# Altium footprint library unspecified.PcbLib: 3 footprints
Each footprint in its own frame and in the unit in brackets; x right, y up, seen from the top. Pads: shape width x height; smd on the part's side, far side on the other; paste and mask are expansions set on the pad; w line width, h text height; cw(c..) or ccw(c..) is an arc to the next point about the centre after c.
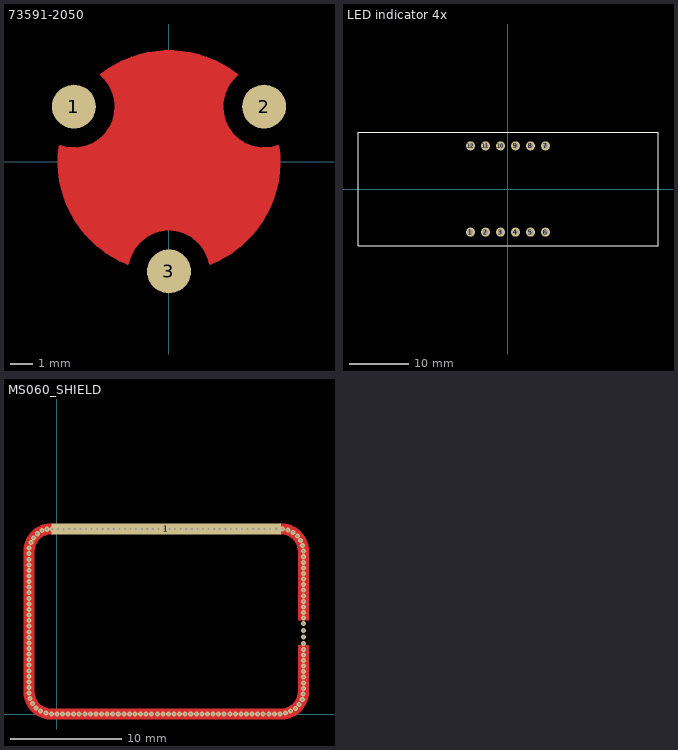
[diagram p0: the footprints below, top view; thin cyan lines are the x and y axes]

## 73591-2050 [mm]
pads (3):
  round 2 smd: 1(-4.33,2.5) 2(4.33,2.5) 3(0,-5)
Top Layer:
  region: 4.664,-1.535 3.648,0.225 0.568,-1.553 1.584,-3.313
  region: 0.346,-2.043 -0.67,-0.283 -3.75,-2.061 -2.734,-3.821
  region: -0.543,-0.646 -1.559,1.114 -4.639,-0.664 -3.623,-2.424
  rectangle: 1.397,-3.429 3.429,0.127
  rectangle: 0.635,-2.921 3.175,0.381
  rectangle: -2.032,-2.286 2.159,4.064
  region: 2.971,4.052 2.755,4.052 2.755,3.819 2.971,3.819
  region: 2.024,-4.599 2.132,-4.412 1.93,-4.295 1.822,-4.483
  region: -4.995,0.547 -4.887,0.36 -4.685,0.476 -4.793,0.664
  region: 4.793,0.664 4.685,0.476 4.887,0.36 4.995,0.547
  region: -1.822,-4.483 -1.93,-4.295 -2.132,-4.412 -2.024,-4.599
  rectangle: -2.971,3.819 -2.755,4.052
  lines w0.15: -1.888,-4.621 cw(c0,-5) 1.882,-4.592 ; -4.954,0.678 ccw(c0,0) -1.89,-4.629 cw(c0,-5) 1.89,-4.629 ccw(c0,0) 4.954,0.678 cw(c4.33,2.5) 3.064,3.951 ccw(c0,0) -3.064,3.951 cw(c-4.33,2.5) -4.954,0.678
  lines w1: -4.498,0.118 ccw(c0,0) -2.125,-3.967 ; -2.373,3.823 cw(c0,0) 2.352,3.837 ; 2.147,-3.955 ccw(c0,0) 4.498,0.144
  lines w1.1: -4.496,0.006 ccw(c-4.33,2.5) -2.204,3.815 ; -2.248,-3.907 cw(c0,-5) 2.247,-3.904 ; 2.262,3.904 ccw(c4.33,2.5) 4.507,0.006

## LED indicator 4x [mil]
pads (12):
  round 60 hole 31.5: 1(-250,-287.4) 2(-150,-287.4) 3(-50,-287.4) 4(50,-287.4) 5(150,-287.4) 6(250,-287.4) 7(250,287.4) 8(150,287.4) 9(50,287.4) 10(-50,287.4) 11(-150,287.4) 12(-250,287.4)
Top Overlay:
  lines w5: -1000,-377.95 1000,-377.95 1000,377.95 -1000,377.95 -1000,-344.49 -1000,-377.95
3D body "User Library-C-564 (7 segment 4 digit LED display).sldprt": height 314.96, standoff -244.09, extent -992.12,-374.02 992.13,374.02

## MS060_SHIELD [mm]
pads (1):
  rect 20.6x1 smd mask+0: 1(9.8,16.6)
via 0.5,0 diameter 0.45 hole 0.2
via 1,0 diameter 0.45 hole 0.2
via 1.5,0 diameter 0.45 hole 0.2
via 2,0 diameter 0.45 hole 0.2
via 2.5,0 diameter 0.45 hole 0.2
via 3,0 diameter 0.45 hole 0.2
via 3.5,0 diameter 0.45 hole 0.2
via 4,0 diameter 0.45 hole 0.2
via 4.5,0 diameter 0.45 hole 0.2
via 5,0 diameter 0.45 hole 0.2
via 5.5,0 diameter 0.45 hole 0.2
via 6,0 diameter 0.45 hole 0.2
via 6.5,0 diameter 0.45 hole 0.2
via 7,0 diameter 0.45 hole 0.2
via 7.5,0 diameter 0.45 hole 0.2
via 8,0 diameter 0.45 hole 0.2
via 8.5,0 diameter 0.45 hole 0.2
via 9,0 diameter 0.45 hole 0.2
via 9.5,0 diameter 0.45 hole 0.2
via 10,0 diameter 0.45 hole 0.2
via 10.5,0 diameter 0.45 hole 0.2
via 11,0 diameter 0.45 hole 0.2
via 11.5,0 diameter 0.45 hole 0.2
via 12,0 diameter 0.45 hole 0.2
via 12.5,0 diameter 0.45 hole 0.2
via 13,0 diameter 0.45 hole 0.2
via 13.5,0 diameter 0.45 hole 0.2
via 14,0 diameter 0.45 hole 0.2
via 14.5,0 diameter 0.45 hole 0.2
via 15,0 diameter 0.45 hole 0.2
via 15.5,0 diameter 0.45 hole 0.2
via 16,0 diameter 0.45 hole 0.2
via 16.5,0 diameter 0.45 hole 0.2
via 17,0 diameter 0.45 hole 0.2
via 17.5,0 diameter 0.45 hole 0.2
via 18,0 diameter 0.45 hole 0.2
via 18.5,0 diameter 0.45 hole 0.2
via 19,0 diameter 0.45 hole 0.2
via 19.5,0 diameter 0.45 hole 0.2
via 20,0 diameter 0.45 hole 0.2
via 20.492,0.087 diameter 0.45 hole 0.2
via 20.962,0.258 diameter 0.45 hole 0.2
via 21.395,0.508 diameter 0.45 hole 0.2
via 21.999,1.294 diameter 0.45 hole 0.2
via 22.086,1.787 diameter 0.45 hole 0.2
via 22.1,2.8 diameter 0.45 hole 0.2
via 22.097,2.296 diameter 0.45 hole 0.2
via 21.72,0.871 diameter 0.45 hole 0.2
via 22.1,3.3 diameter 0.45 hole 0.2
via 22.1,3.8 diameter 0.45 hole 0.2
via 22.1,4.3 diameter 0.45 hole 0.2
via 22.1,4.8 diameter 0.45 hole 0.2
via 22.1,5.3 diameter 0.45 hole 0.2
via 22.1,5.8 diameter 0.45 hole 0.2
via 22.1,6.3 diameter 0.45 hole 0.2
via 22.1,6.9 diameter 0.45 hole 0.2
via 22.1,7.5 diameter 0.45 hole 0.2
via 22.1,8.1 diameter 0.45 hole 0.2
via 22.1,14.1 diameter 0.45 hole 0.2
via 22.1,13.6 diameter 0.45 hole 0.2
via 22.1,13.1 diameter 0.45 hole 0.2
via 22.1,12.6 diameter 0.45 hole 0.2
via 22.1,12.1 diameter 0.45 hole 0.2
via 22.1,11.6 diameter 0.45 hole 0.2
via 22.1,11.1 diameter 0.45 hole 0.2
via 22.1,10.6 diameter 0.45 hole 0.2
via 22.1,10.1 diameter 0.45 hole 0.2
via 22.1,9.6 diameter 0.45 hole 0.2
via 22.1,9.1 diameter 0.45 hole 0.2
via 22.1,8.6 diameter 0.45 hole 0.2
via 11.1,16.6 diameter 0.45 hole 0.2
via 11.6,16.6 diameter 0.45 hole 0.2
via 12.1,16.6 diameter 0.45 hole 0.2
via 12.6,16.6 diameter 0.45 hole 0.2
via 13.1,16.6 diameter 0.45 hole 0.2
via 13.6,16.6 diameter 0.45 hole 0.2
via 14.1,16.6 diameter 0.45 hole 0.2
via 14.6,16.6 diameter 0.45 hole 0.2
via 15.1,16.6 diameter 0.45 hole 0.2
via 15.6,16.6 diameter 0.45 hole 0.2
via 16.1,16.6 diameter 0.45 hole 0.2
via 16.6,16.6 diameter 0.45 hole 0.2
via 17.1,16.6 diameter 0.45 hole 0.2
via 17.6,16.6 diameter 0.45 hole 0.2
via 18.1,16.6 diameter 0.45 hole 0.2
via 18.6,16.6 diameter 0.45 hole 0.2
via 19.1,16.6 diameter 0.45 hole 0.2
via 0.6,16.6 diameter 0.45 hole 0.2
via 1.1,16.6 diameter 0.45 hole 0.2
via 1.6,16.6 diameter 0.45 hole 0.2
via 2.1,16.6 diameter 0.45 hole 0.2
via 2.6,16.6 diameter 0.45 hole 0.2
via 3.1,16.6 diameter 0.45 hole 0.2
via 3.6,16.6 diameter 0.45 hole 0.2
via 4.1,16.6 diameter 0.45 hole 0.2
via 4.6,16.6 diameter 0.45 hole 0.2
via 5.1,16.6 diameter 0.45 hole 0.2
via 5.6,16.6 diameter 0.45 hole 0.2
via 6.1,16.6 diameter 0.45 hole 0.2
via 6.6,16.6 diameter 0.45 hole 0.2
via 7.1,16.6 diameter 0.45 hole 0.2
via 7.6,16.6 diameter 0.45 hole 0.2
via 8.1,16.6 diameter 0.45 hole 0.2
via 8.6,16.6 diameter 0.45 hole 0.2
via 9.1,16.6 diameter 0.45 hole 0.2
via 9.6,16.6 diameter 0.45 hole 0.2
via 10.1,16.6 diameter 0.45 hole 0.2
via 10.6,16.6 diameter 0.45 hole 0.2
via 0,0 diameter 0.45 hole 0.2
via -0.5,0 diameter 0.45 hole 0.2
via -0.992,0.087 diameter 0.45 hole 0.2
via -1.462,0.258 diameter 0.45 hole 0.2
via -1.872,0.545 diameter 0.45 hole 0.2
via -2.193,0.928 diameter 0.45 hole 0.2
via -2.405,1.381 diameter 0.45 hole 0.2
via -2.491,1.873 diameter 0.45 hole 0.2
via -2.491,2.373 diameter 0.45 hole 0.2
via -2.491,2.873 diameter 0.45 hole 0.2
via -2.491,3.373 diameter 0.45 hole 0.2
via -2.491,3.873 diameter 0.45 hole 0.2
via -2.491,4.373 diameter 0.45 hole 0.2
via -2.491,4.873 diameter 0.45 hole 0.2
via -2.491,5.373 diameter 0.45 hole 0.2
via -2.491,5.873 diameter 0.45 hole 0.2
via -2.491,6.373 diameter 0.45 hole 0.2
via -2.491,6.873 diameter 0.45 hole 0.2
via -2.491,7.373 diameter 0.45 hole 0.2
via -2.491,7.873 diameter 0.45 hole 0.2
via -2.491,8.373 diameter 0.45 hole 0.2
via -2.491,8.873 diameter 0.45 hole 0.2
via -2.491,9.373 diameter 0.45 hole 0.2
via -2.491,9.873 diameter 0.45 hole 0.2
via -2.491,10.373 diameter 0.45 hole 0.2
via -2.491,10.873 diameter 0.45 hole 0.2
via -2.491,11.373 diameter 0.45 hole 0.2
via -2.491,11.873 diameter 0.45 hole 0.2
via -2.491,12.373 diameter 0.45 hole 0.2
via -2.491,12.873 diameter 0.45 hole 0.2
via -2.491,13.373 diameter 0.45 hole 0.2
via -2.491,13.873 diameter 0.45 hole 0.2
via -2.491,14.373 diameter 0.45 hole 0.2
via 22.1,14.6 diameter 0.45 hole 0.2
via 22.013,15.092 diameter 0.45 hole 0.2
via 21.842,15.562 diameter 0.45 hole 0.2
via 21.555,15.972 diameter 0.45 hole 0.2
via 21.172,16.293 diameter 0.45 hole 0.2
via 20.719,16.505 diameter 0.45 hole 0.2
via 20.227,16.591 diameter 0.45 hole 0.2
via 19.658,16.606 diameter 0.45 hole 0.2
via -2.333,15.357 diameter 0.45 hole 0.2
via -2.503,14.886 diameter 0.45 hole 0.2
via -2.103,15.794 diameter 0.45 hole 0.2
via -1.76,16.162 diameter 0.45 hole 0.2
via -1.337,16.443 diameter 0.45 hole 0.2
via 0.1,16.6 diameter 0.45 hole 0.2
via -0.423,16.596 diameter 0.45 hole 0.2
via -0.889,16.565 diameter 0.45 hole 0.2
Top Layer:
  rectangle: 21.6,8.4 22.6,10
  rectangle: 21.6,4.6 22.6,6.2
  lines w1: -0.5,16.6 ccw(c-0.5,14.6) -2.5,14.6 -2.5,2 ccw(c-0.5,2) -0.5,0 20.1,0 ccw(c20.1,2) 22.1,2 22.1,4.6 ; 20.1,16.6 cw(c20.1,14.6) 22.1,14.6 22.1,10